# EAGLE library part CINCON5V (library collin)
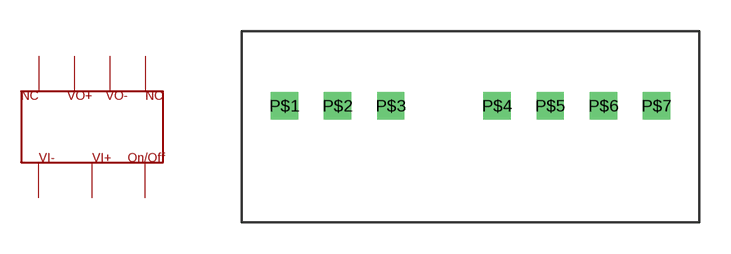
[diagram p2: symbol with the pads of CINCON5V; footprint CINCON5V]

Designator prefix -

## CINCON5V  [CINCON5V]
P$1  P$1
P$2  P$2
P$3  P$3
P$4  P$4
P$5  P$5
P$6  P$6
P$7  P$7

## Footprint CINCON5V (pad centres in mm)
drill 0.8 square: P$1 2.032,5.588; P$2 4.572,5.588; P$3 7.112,5.588; P$4 12.192,5.588; P$5 14.732,5.588; P$6 17.272,5.588; P$7 19.812,5.588